# Altium footprint library KFHB9500-LI.PcbLib: 11 footprints
Each footprint in its own frame and in the unit in brackets; x right, y up, seen from the top. Pads: shape width x height; smd on the part's side, far side on the other; paste and mask are expansions set on the pad; w line width, h text height; cw(c..) or ccw(c..) is an arc to the next point about the centre after c.
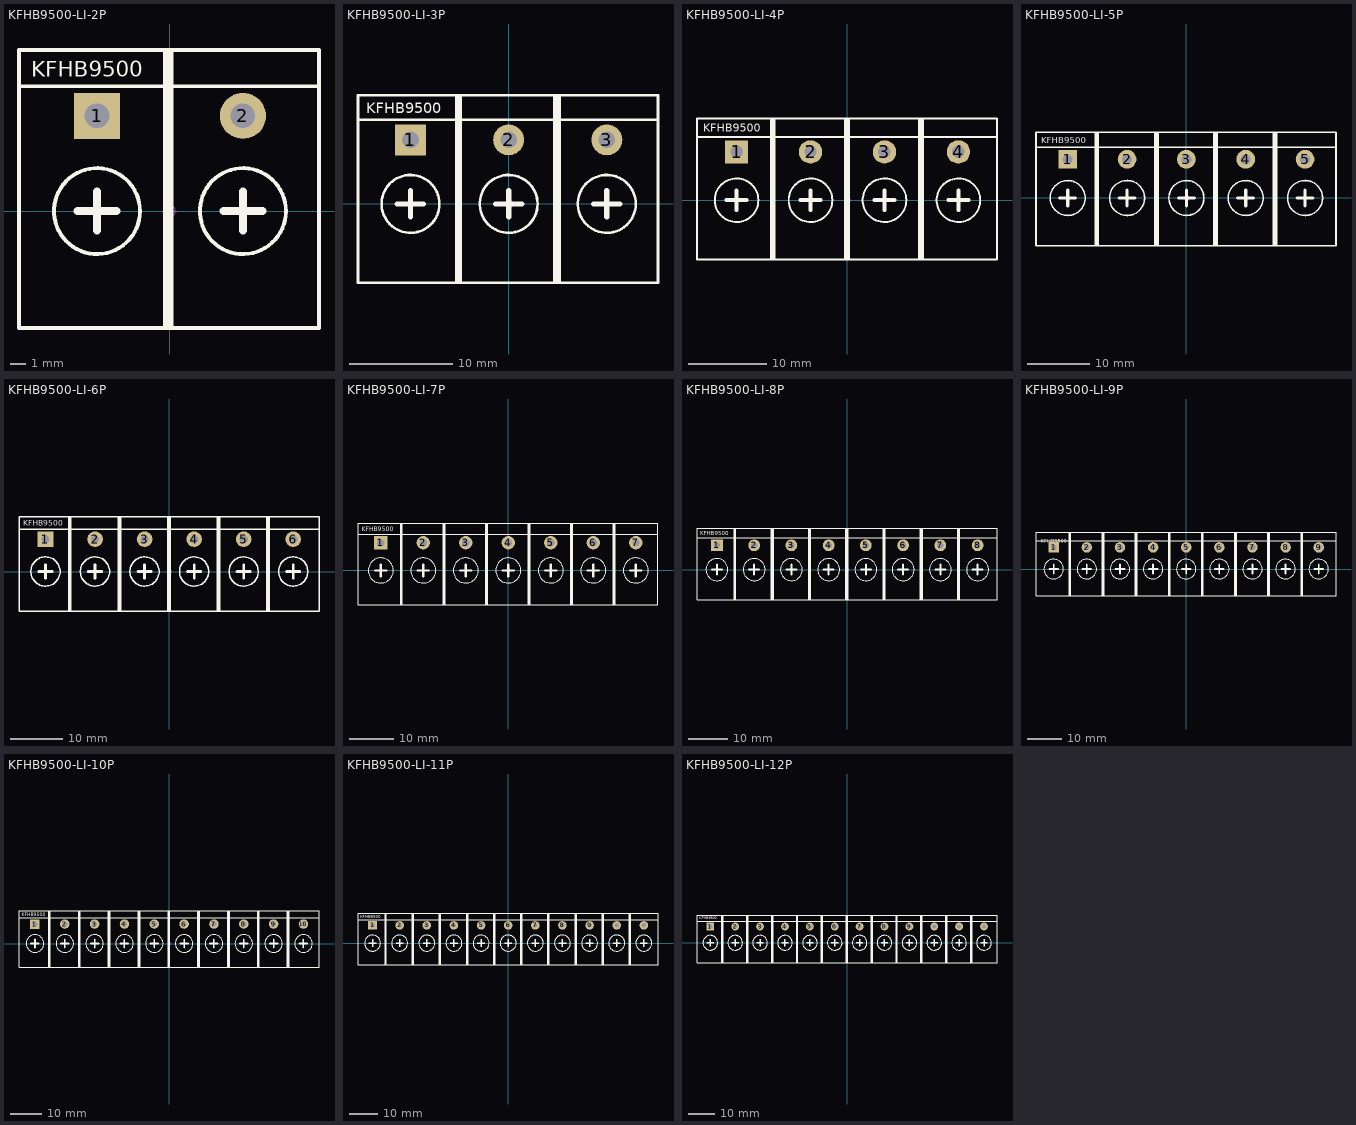
[diagram p0: the footprints below, top view; thin cyan lines are the x and y axes]

## KFHB9500-LI-2P [mm] "长：18mm，宽：19.1mm，高：14"
pads (2):
  rect 3x3 hole 1.6: 1(-4.75,6.2)
  round 3 hole 1.6: 2(4.75,6.2)
Top Overlay:
  circle w0.254: c-4.75,0 r2.8
  circle w0.254: c4.75,0 r2.8
  lines w0.254: -9.83,8.128 0.076,8.128 ; -0.33,8.128 9.576,8.128 ; -0.076,-7.62 -0.076,10.5 ; -9.83,-7.62 -9.83,10.5 0.103,10.5 0.103,-7.62 -9.83,-7.62 ; -0.33,-7.62 -0.33,10.5 9.703,10.5 9.703,-7.62 -0.33,-7.62
  lines w0.508: -6.02,0 -3.48,0 ; -4.75,-1.27 -4.75,1.27 ; 3.48,0 6.02,0 ; 4.75,-1.27 4.75,1.27
  text "KFHB9500" at -9.017,8.763 h1.02
Mechanical 15:
  circle w0.05: c0,0 r0.35
  lines w0.05: -0.5,0 0.5,0 ; 0,-0.5 0,0.5
3D body "KFHB9500.STEP": height 14.05, standoff -3.25, extent -9.95,-7.5 0.05,10.5
3D body "KFHB9500.STEP": height 14.05, standoff -3.25, extent -0.45,-7.5 9.55,10.5

## KFHB9500-LI-3P [mm] "长：18mm，宽：28.6mm，高：14"
pads (3):
  rect 3x3 hole 1.6: 1(-9.5,6.2)
  round 3 hole 1.6: 2(0,6.2) 3(9.5,6.2)
Top Overlay:
  circle w0.254: c-9.5,0 r2.8
  circle w0.254: c0,0 r2.8
  circle w0.254: c9.5,0 r2.8
  lines w0.254: -14.58,8.128 -4.674,8.128 ; -5.08,8.128 4.826,8.128 ; -4.826,-7.62 -4.826,10.5 ; 4.42,8.128 14.326,8.128 ; 4.674,-7.62 4.674,10.5 ; 4.853,-7.62 4.853,10.5 ; -14.58,-7.62 -14.58,10.5 -4.647,10.5 -4.647,-7.62 -14.58,-7.62 ; -5.08,-7.62 -5.08,10.5 4.953,10.5 4.953,-7.62 -5.08,-7.62 ; 4.42,-7.62 14.453,-7.62 14.453,10.5 4.42,10.5 4.42,-7.62
  lines w0.508: -10.77,0 -8.23,0 ; -9.5,-1.27 -9.5,1.27 ; -1.27,0 1.27,0 ; 0,-1.27 0,1.27 ; 8.23,0 10.77,0 ; 9.5,-1.27 9.5,1.27
  text "KFHB9500" at -13.767,8.763 h1.02
Mechanical 15:
  circle w0.05: c0.076,0 r0.35
  lines w0.05: -0.424,0 0.576,0 ; 0.076,-0.5 0.076,0.5
3D body "KFHB9500.STEP": height 14.05, standoff -3.25, extent 4.3,-7.5 14.3,10.5
3D body "KFHB9500.STEP": height 14.05, standoff -3.25, extent -5.2,-7.5 4.8,10.5
3D body "KFHB9500.STEP": height 14.05, standoff -3.25, extent -14.7,-7.5 -4.7,10.5

## KFHB9500-LI-4P [mm] "长：18mm，宽：38.1mm，高：14"
pads (4):
  rect 3x3 hole 1.6: 1(-14.25,6.2)
  round 3 hole 1.6: 2(-4.75,6.2) 3(4.75,6.2) 4(14.25,6.2)
Top Overlay:
  circle w0.254: c4.75,0 r2.8
  circle w0.254: c-4.75,0 r2.8
  circle w0.254: c-14.25,0 r2.8
  circle w0.254: c14.25,0 r2.8
  lines w0.254: -19.33,8.128 -9.424,8.128 ; -9.83,8.128 0.076,8.128 ; -9.576,-7.62 -9.576,10.5 ; -0.33,8.128 9.576,8.128 ; -0.076,-7.62 -0.076,10.5 ; 0.103,-7.62 0.103,10.5 ; 9.17,8.128 19.076,8.128 ; 9.424,-7.62 9.424,10.5 ; 9.603,-7.62 9.603,10.5 ; 9.703,-7.62 -0.33,-7.62 -0.33,10.5 9.703,10.5 ; 9.703,-7.62 9.703,10.5 ; 9.703,-7.62 9.703,10.5 ; -19.33,-7.62 -9.397,-7.62 -9.397,10.5 -19.33,10.5 -19.33,-7.62 ; -9.83,-7.62 0.203,-7.62 0.203,10.5 -9.83,10.5 -9.83,-7.62 ; 9.17,-7.62 19.203,-7.62 19.203,10.5 9.17,10.5 9.17,-7.62
  lines w0.508: -15.52,0 -12.98,0 ; -14.25,-1.27 -14.25,1.27 ; -6.02,0 -3.48,0 ; -4.75,-1.27 -4.75,1.27 ; 3.48,0 6.02,0 ; 4.75,-1.27 4.75,1.27 ; 12.98,0 15.52,0 ; 14.25,-1.27 14.25,1.27
  text "KFHB9500" at -18.517,8.763 h1.02
Mechanical 15:
  circle w0.05: c0,0 r0.35
  lines w0.05: -0.5,0 0.5,0 ; 0,-0.5 0,0.5
3D body "KFHB9500.STEP": height 14.05, standoff -3.25, extent 9.05,-7.5 19.05,10.5
3D body "KFHB9500.STEP": height 14.05, standoff -3.25, extent -0.45,-7.5 9.55,10.5
3D body "KFHB9500.STEP": height 14.05, standoff -3.25, extent -9.95,-7.5 0.05,10.5
3D body "KFHB9500.STEP": height 14.05, standoff -3.25, extent -19.45,-7.5 -9.45,10.5

## KFHB9500-LI-5P [mm] "长：18mm，宽：47.6mm，高：14"
pads (5):
  rect 3x3 hole 1.6: 1(-19,6.2)
  round 3 hole 1.6: 2(-9.5,6.2) 3(0,6.2) 4(9.5,6.2) 5(19,6.2)
Top Overlay:
  circle w0.254: c19,0 r2.8
  circle w0.254: c9.5,0 r2.8
  circle w0.254: c-19,0 r2.8
  circle w0.254: c-9.5,0 r2.8
  circle w0.254: c0,0 r2.8
  lines w0.254: -24.08,8.128 -14.174,8.128 ; -14.58,8.128 -4.674,8.128 ; -14.326,-7.62 -14.326,10.5 ; -5.08,8.128 4.826,8.128 ; -4.826,-7.62 -4.826,10.5 ; -4.647,-7.62 -4.647,10.5 ; 4.42,8.128 14.326,8.128 ; 4.674,-7.62 4.674,10.5 ; 4.853,-7.62 4.853,10.5 ; 13.92,8.128 23.826,8.128 ; 14.174,-7.62 14.174,10.5 ; 14.353,-7.62 14.353,10.5 ; 4.953,-7.62 4.953,10.5 ; 4.953,-7.62 4.953,10.5 ; 4.953,-7.62 -5.08,-7.62 -5.08,10.5 4.953,10.5 ; 14.453,-7.62 14.453,10.5 ; 14.453,-7.62 14.453,10.5 ; 14.453,-7.62 4.42,-7.62 4.42,10.5 14.453,10.5 ; 14.453,-7.62 14.453,10.5 ; -24.08,-7.62 -24.08,10.5 -14.147,10.5 -14.147,-7.62 -24.08,-7.62 ; -14.58,-7.62 -14.58,10.5 -4.547,10.5 -4.547,-7.62 -14.58,-7.62 ; 13.92,-7.62 23.953,-7.62 23.953,10.5 13.92,10.5 13.92,-7.62
  lines w0.508: -20.27,0 -17.73,0 ; -19,-1.27 -19,1.27 ; -10.77,0 -8.23,0 ; -9.5,-1.27 -9.5,1.27 ; -1.27,0 1.27,0 ; 0,-1.27 0,1.27 ; 8.23,0 10.77,0 ; 9.5,-1.27 9.5,1.27 ; 17.73,0 20.27,0 ; 19,-1.27 19,1.27
  text "KFHB9500" at -23.267,8.763 h1.02
Mechanical 15:
  circle w0.05: c0.076,0 r0.35
  lines w0.05: -0.424,0 0.576,0 ; 0.076,-0.5 0.076,0.5
3D body "KFHB9500.STEP": height 14.05, standoff -3.25, extent -24.2,-7.5 -14.2,10.5
3D body "KFHB9500.STEP": height 14.05, standoff -3.25, extent -14.7,-7.5 -4.7,10.5
3D body "KFHB9500.STEP": height 14.05, standoff -3.25, extent -5.2,-7.5 4.8,10.5
3D body "KFHB9500.STEP": height 14.05, standoff -3.25, extent 4.3,-7.5 14.3,10.5
3D body "KFHB9500.STEP": height 14.05, standoff -3.25, extent 13.8,-7.5 23.8,10.5

## KFHB9500-LI-6P [mm] "长：18mm，宽：57.1mm，高：14"
pads (6):
  rect 3x3 hole 1.6: 1(-23.75,6.2)
  round 3 hole 1.6: 2(-14.25,6.2) 3(-4.75,6.2) 4(4.75,6.2) 5(14.25,6.2) 6(23.75,6.2)
Top Overlay:
  circle w0.254: c14.25,0 r2.8
  circle w0.254: c4.75,0 r2.8
  circle w0.254: c-23.75,0 r2.8
  circle w0.254: c-14.25,0 r2.8
  circle w0.254: c-4.75,0 r2.8
  circle w0.254: c23.75,0 r2.8
  lines w0.254: -28.83,8.128 -18.924,8.128 ; -19.33,8.128 -9.424,8.128 ; -19.076,-7.62 -19.076,10.5 ; -9.83,8.128 0.076,8.128 ; -9.576,-7.62 -9.576,10.5 ; -9.397,-7.62 -9.397,10.5 ; -0.33,8.128 9.576,8.128 ; -0.076,-7.62 -0.076,10.5 ; 0.103,-7.62 0.103,10.5 ; 9.17,8.128 19.076,8.128 ; 9.424,-7.62 9.424,10.5 ; 9.603,-7.62 9.603,10.5 ; 18.67,8.128 28.576,8.128 ; 18.924,-7.62 18.924,10.5 ; 19.103,-7.62 19.103,10.5 ; 0.203,-7.62 0.203,10.5 ; 0.203,-7.62 0.203,10.5 ; 0.203,-7.62 -9.83,-7.62 -9.83,10.5 0.203,10.5 ; 9.703,-7.62 9.703,10.5 ; 9.703,-7.62 9.703,10.5 ; 9.703,-7.62 -0.33,-7.62 -0.33,10.5 9.703,10.5 ; 9.703,-7.62 9.703,10.5 ; 19.203,-7.62 19.203,10.5 ; 19.203,-7.62 9.17,-7.62 9.17,10.5 19.203,10.5 ; 19.203,-7.62 19.203,10.5 ; 19.203,-7.62 19.203,10.5 ; 19.203,-7.62 19.203,10.5 ; -28.83,-7.62 -28.83,10.5 -18.897,10.5 -18.897,-7.62 -28.83,-7.62 ; -19.33,-7.62 -19.33,10.5 -9.297,10.5 -9.297,-7.62 -19.33,-7.62 ; 18.67,-7.62 18.67,10.5 28.703,10.5 28.703,-7.62 18.67,-7.62
  lines w0.508: -25.02,0 -22.48,0 ; -23.75,-1.27 -23.75,1.27 ; -15.52,0 -12.98,0 ; -14.25,-1.27 -14.25,1.27 ; -6.02,0 -3.48,0 ; -4.75,-1.27 -4.75,1.27 ; 3.48,0 6.02,0 ; 4.75,-1.27 4.75,1.27 ; 12.98,0 15.52,0 ; 14.25,-1.27 14.25,1.27 ; 22.48,0 25.02,0 ; 23.75,-1.27 23.75,1.27
  text "KFHB9500" at -28.017,8.763 h1.02
Mechanical 15:
  circle w0.05: c0,0 r0.35
  lines w0.05: -0.5,0 0.5,0 ; 0,-0.5 0,0.5
3D body "KFHB9500.STEP": height 14.05, standoff -3.25, extent 18.55,-7.5 28.55,10.5
3D body "KFHB9500.STEP": height 14.05, standoff -3.25, extent 9.05,-7.5 19.05,10.5
3D body "KFHB9500.STEP": height 14.05, standoff -3.25, extent -0.45,-7.5 9.55,10.5
3D body "KFHB9500.STEP": height 14.05, standoff -3.25, extent -9.95,-7.5 0.05,10.5
3D body "KFHB9500.STEP": height 14.05, standoff -3.25, extent -19.45,-7.5 -9.45,10.5
3D body "KFHB9500.STEP": height 14.05, standoff -3.25, extent -28.95,-7.5 -18.95,10.5

## KFHB9500-LI-7P [mm] "长：18mm，宽：66.6mm，高：14"
pads (7):
  rect 3x3 hole 1.6: 1(-28.5,6.2)
  round 3 hole 1.6: 2(-19,6.2) 3(-9.5,6.2) 4(0,6.2) 5(9.5,6.2) 6(19,6.2) 7(28.5,6.2)
Top Overlay:
  circle w0.254: c28.5,0 r2.8
  circle w0.254: c9.5,0 r2.8
  circle w0.254: c0,0 r2.8
  circle w0.254: c-28.5,0 r2.8
  circle w0.254: c-19,0 r2.8
  circle w0.254: c-9.5,0 r2.8
  circle w0.254: c19,0 r2.8
  lines w0.254: -33.58,8.128 -23.674,8.128 ; -24.08,8.128 -14.174,8.128 ; -23.826,-7.62 -23.826,10.5 ; -14.58,8.128 -4.674,8.128 ; -14.326,-7.62 -14.326,10.5 ; -14.147,-7.62 -14.147,10.5 ; -5.08,8.128 4.826,8.128 ; -4.826,-7.62 -4.826,10.5 ; -4.647,-7.62 -4.647,10.5 ; 4.42,8.128 14.326,8.128 ; 4.674,-7.62 4.674,10.5 ; 4.853,-7.62 4.853,10.5 ; 13.92,8.128 23.826,8.128 ; 14.174,-7.62 14.174,10.5 ; 14.353,-7.62 14.353,10.5 ; 23.42,8.128 33.326,8.128 ; 23.674,-7.62 23.674,10.5 ; 23.853,-7.62 23.853,10.5 ; -4.547,-7.62 -4.547,10.5 ; -4.547,-7.62 -4.547,10.5 ; -4.547,-7.62 -14.58,-7.62 -14.58,10.5 -4.547,10.5 ; 4.953,-7.62 4.953,10.5 ; 4.953,-7.62 4.953,10.5 ; 4.953,-7.62 -5.08,-7.62 -5.08,10.5 4.953,10.5 ; 4.953,-7.62 4.953,10.5 ; 14.453,-7.62 14.453,10.5 ; 14.453,-7.62 4.42,-7.62 4.42,10.5 14.453,10.5 ; 14.453,-7.62 14.453,10.5 ; 14.453,-7.62 14.453,10.5 ; 14.453,-7.62 14.453,10.5 ; 23.953,-7.62 23.953,10.5 ; 23.953,-7.62 23.953,10.5 ; 23.953,-7.62 23.953,10.5 ; 23.953,-7.62 23.953,10.5 ; 23.953,-7.62 13.92,-7.62 13.92,10.5 23.953,10.5 ; 23.953,-7.62 23.953,10.5 ; -33.58,-7.62 -33.58,10.5 -23.647,10.5 -23.647,-7.62 -33.58,-7.62 ; -24.08,-7.62 -24.08,10.5 -14.047,10.5 -14.047,-7.62 -24.08,-7.62 ; 23.42,-7.62 33.453,-7.62 33.453,10.5 23.42,10.5 23.42,-7.62
  lines w0.508: -29.77,0 -27.23,0 ; -28.5,-1.27 -28.5,1.27 ; -20.27,0 -17.73,0 ; -19,-1.27 -19,1.27 ; -10.77,0 -8.23,0 ; -9.5,-1.27 -9.5,1.27 ; -1.27,0 1.27,0 ; 0,-1.27 0,1.27 ; 8.23,0 10.77,0 ; 9.5,-1.27 9.5,1.27 ; 17.73,0 20.27,0 ; 19,-1.27 19,1.27 ; 27.23,0 29.77,0 ; 28.5,-1.27 28.5,1.27
  text "KFHB9500" at -32.767,8.763 h1.02
Mechanical 15:
  circle w0.05: c0,0 r0.35
  lines w0.05: -0.5,0 0.5,0 ; 0,-0.5 0,0.5
3D body "KFHB9500.STEP": height 14.05, standoff -3.25, extent -33.7,-7.5 -23.7,10.5
3D body "KFHB9500.STEP": height 14.05, standoff -3.25, extent -24.2,-7.5 -14.2,10.5
3D body "KFHB9500.STEP": height 14.05, standoff -3.25, extent -14.7,-7.5 -4.7,10.5
3D body "KFHB9500.STEP": height 14.05, standoff -3.25, extent -5.2,-7.5 4.8,10.5
3D body "KFHB9500.STEP": height 14.05, standoff -3.25, extent 4.3,-7.5 14.3,10.5
3D body "KFHB9500.STEP": height 14.05, standoff -3.25, extent 13.8,-7.5 23.8,10.5
3D body "KFHB9500.STEP": height 14.05, standoff -3.25, extent 23.3,-7.5 33.3,10.5

## KFHB9500-LI-8P [mm] "长：18mm，宽：76.1mm，高：14"
pads (8):
  rect 3x3 hole 1.6: 1(-33.25,6.2)
  round 3 hole 1.6: 2(-23.75,6.2) 3(-14.25,6.2) 4(-4.75,6.2) 5(4.75,6.2) 6(14.25,6.2) 7(23.75,6.2) 8(33.25,6.2)
Top Overlay:
  circle w0.254: c23.75,0 r2.8
  circle w0.254: c4.75,0 r2.8
  circle w0.254: c-4.75,0 r2.8
  circle w0.254: c-33.25,0 r2.8
  circle w0.254: c-23.75,0 r2.8
  circle w0.254: c-14.25,0 r2.8
  circle w0.254: c14.25,0 r2.8
  circle w0.254: c33.25,0 r2.8
  lines w0.254: -38.33,8.128 -28.424,8.128 ; -28.83,8.128 -18.924,8.128 ; -28.576,-7.62 -28.576,10.5 ; -19.33,8.128 -9.424,8.128 ; -19.076,-7.62 -19.076,10.5 ; -18.897,-7.62 -18.897,10.5 ; -9.83,8.128 0.076,8.128 ; -9.576,-7.62 -9.576,10.5 ; -9.397,-7.62 -9.397,10.5 ; -0.33,8.128 9.576,8.128 ; -0.076,-7.62 -0.076,10.5 ; 0.103,-7.62 0.103,10.5 ; 9.17,8.128 19.076,8.128 ; 9.424,-7.62 9.424,10.5 ; 9.603,-7.62 9.603,10.5 ; 18.67,8.128 28.576,8.128 ; 18.924,-7.62 18.924,10.5 ; 19.103,-7.62 19.103,10.5 ; 28.17,8.128 38.076,8.128 ; 28.424,-7.62 28.424,10.5 ; 28.603,-7.62 28.603,10.5 ; -9.297,-7.62 -9.297,10.5 ; -9.297,-7.62 -9.297,10.5 ; -9.297,-7.62 -19.33,-7.62 -19.33,10.5 -9.297,10.5 ; 0.203,-7.62 0.203,10.5 ; 0.203,-7.62 0.203,10.5 ; 0.203,-7.62 -9.83,-7.62 -9.83,10.5 0.203,10.5 ; 0.203,-7.62 0.203,10.5 ; 9.703,-7.62 9.703,10.5 ; 9.703,-7.62 -0.33,-7.62 -0.33,10.5 9.703,10.5 ; 9.703,-7.62 9.703,10.5 ; 9.703,-7.62 9.703,10.5 ; 9.703,-7.62 9.703,10.5 ; 19.203,-7.62 19.203,10.5 ; 19.203,-7.62 19.203,10.5 ; 19.203,-7.62 19.203,10.5 ; 19.203,-7.62 19.203,10.5 ; 19.203,-7.62 9.17,-7.62 9.17,10.5 19.203,10.5 ; 19.203,-7.62 19.203,10.5 ; 28.703,-7.62 28.703,10.5 ; 28.703,-7.62 18.67,-7.62 18.67,10.5 28.703,10.5 ; 28.703,-7.62 28.703,10.5 ; 28.703,-7.62 28.703,10.5 ; 28.703,-7.62 28.703,10.5 ; 28.703,-7.62 28.703,10.5 ; 28.703,-7.62 28.703,10.5 ; -38.33,-7.62 -38.33,10.5 -28.397,10.5 -28.397,-7.62 -38.33,-7.62 ; -28.83,-7.62 -28.83,10.5 -18.797,10.5 -18.797,-7.62 -28.83,-7.62 ; 28.17,-7.62 28.17,10.5 38.203,10.5 38.203,-7.62 28.17,-7.62
  lines w0.508: -34.52,0 -31.98,0 ; -33.25,-1.27 -33.25,1.27 ; -25.02,0 -22.48,0 ; -23.75,-1.27 -23.75,1.27 ; -15.52,0 -12.98,0 ; -14.25,-1.27 -14.25,1.27 ; -6.02,0 -3.48,0 ; -4.75,-1.27 -4.75,1.27 ; 3.48,0 6.02,0 ; 4.75,-1.27 4.75,1.27 ; 12.98,0 15.52,0 ; 14.25,-1.27 14.25,1.27 ; 22.48,0 25.02,0 ; 23.75,-1.27 23.75,1.27 ; 31.98,0 34.52,0 ; 33.25,-1.27 33.25,1.27
  text "KFHB9500" at -37.517,8.763 h1.02
Mechanical 15:
  circle w0.05: c0,0 r0.35
  lines w0.05: -0.5,0 0.5,0 ; 0,-0.5 0,0.5
3D body "KFHB9500.STEP": height 14.05, standoff -3.25, extent 28.05,-7.5 38.05,10.5
3D body "KFHB9500.STEP": height 14.05, standoff -3.25, extent 18.55,-7.5 28.55,10.5
3D body "KFHB9500.STEP": height 14.05, standoff -3.25, extent 9.05,-7.5 19.05,10.5
3D body "KFHB9500.STEP": height 14.05, standoff -3.25, extent -0.45,-7.5 9.55,10.5
3D body "KFHB9500.STEP": height 14.05, standoff -3.25, extent -9.95,-7.5 0.05,10.5
3D body "KFHB9500.STEP": height 14.05, standoff -3.25, extent -19.45,-7.5 -9.45,10.5
3D body "KFHB9500.STEP": height 14.05, standoff -3.25, extent -28.95,-7.5 -18.95,10.5
3D body "KFHB9500.STEP": height 14.05, standoff -3.25, extent -38.45,-7.5 -28.45,10.5

## KFHB9500-LI-9P [mm] "长：18mm，宽：85.6mm，高：14"
pads (9):
  rect 3x3 hole 1.6: 1(-38,6.2)
  round 3 hole 1.6: 2(-28.5,6.2) 3(-19,6.2) 4(-9.5,6.2) 5(0,6.2) 6(9.5,6.2) 7(19,6.2) 8(28.5,6.2) 9(38,6.2)
Top Overlay:
  circle w0.254: c28.5,0 r2.8
  circle w0.254: c9.5,0 r2.8
  circle w0.254: c-19,0 r2.8
  circle w0.254: c-28.5,0 r2.8
  circle w0.254: c-38,0 r2.8
  circle w0.254: c-9.5,0 r2.8
  circle w0.254: c0,0 r2.8
  circle w0.254: c19,0 r2.8
  circle w0.254: c38,0 r2.8
  lines w0.254: -43.08,8.128 -33.174,8.128 ; -33.58,8.128 -23.674,8.128 ; -33.326,-7.62 -33.326,10.5 ; -24.08,8.128 -14.174,8.128 ; -23.826,-7.62 -23.826,10.5 ; -23.647,-7.62 -23.647,10.5 ; -14.58,8.128 -4.674,8.128 ; -14.326,-7.62 -14.326,10.5 ; -14.147,-7.62 -14.147,10.5 ; -5.08,8.128 4.826,8.128 ; -4.826,-7.62 -4.826,10.5 ; -4.647,-7.62 -4.647,10.5 ; 4.42,8.128 14.326,8.128 ; 4.674,-7.62 4.674,10.5 ; 4.853,-7.62 4.853,10.5 ; 13.92,8.128 23.826,8.128 ; 14.174,-7.62 14.174,10.5 ; 14.353,-7.62 14.353,10.5 ; 23.42,8.128 33.326,8.128 ; 23.674,-7.62 23.674,10.5 ; 23.853,-7.62 23.853,10.5 ; 32.92,8.128 42.826,8.128 ; 33.174,-7.62 33.174,10.5 ; 33.353,-7.62 33.353,10.5 ; -14.047,-7.62 -24.08,-7.62 -24.08,10.5 -14.047,10.5 ; -14.047,-7.62 -14.047,10.5 ; -14.047,-7.62 -14.047,10.5 ; -4.547,-7.62 -4.547,10.5 ; -4.547,-7.62 -14.58,-7.62 -14.58,10.5 -4.547,10.5 ; -4.547,-7.62 -4.547,10.5 ; -4.547,-7.62 -4.547,10.5 ; 4.953,-7.62 4.953,10.5 ; 4.953,-7.62 4.953,10.5 ; 4.953,-7.62 4.953,10.5 ; 4.953,-7.62 -5.08,-7.62 -5.08,10.5 4.953,10.5 ; 4.953,-7.62 4.953,10.5 ; 14.453,-7.62 14.453,10.5 ; 14.453,-7.62 4.42,-7.62 4.42,10.5 14.453,10.5 ; 14.453,-7.62 14.453,10.5 ; 14.453,-7.62 14.453,10.5 ; 14.453,-7.62 14.453,10.5 ; 14.453,-7.62 14.453,10.5 ; 23.953,-7.62 23.953,10.5 ; 23.953,-7.62 23.953,10.5 ; 23.953,-7.62 23.953,10.5 ; 23.953,-7.62 23.953,10.5 ; 23.953,-7.62 23.953,10.5 ; 23.953,-7.62 13.92,-7.62 13.92,10.5 23.953,10.5 ; 23.953,-7.62 23.953,10.5 ; 33.453,-7.62 33.453,10.5 ; 33.453,-7.62 23.42,-7.62 23.42,10.5 33.453,10.5 ; 33.453,-7.62 33.453,10.5 ; 33.453,-7.62 33.453,10.5 ; 33.453,-7.62 33.453,10.5 ; 33.453,-7.62 33.453,10.5 ; 33.453,-7.62 33.453,10.5 ; 33.453,-7.62 33.453,10.5 ; -43.08,-7.62 -33.147,-7.62 -33.147,10.5 -43.08,10.5 -43.08,-7.62 ; -33.58,-7.62 -23.547,-7.62 -23.547,10.5 -33.58,10.5 -33.58,-7.62 ; 32.92,-7.62 32.92,10.5 42.953,10.5 42.953,-7.62 32.92,-7.62
  lines w0.508: -39.27,0 -36.73,0 ; -38,-1.27 -38,1.27 ; -29.77,0 -27.23,0 ; -28.5,-1.27 -28.5,1.27 ; -20.27,0 -17.73,0 ; -19,-1.27 -19,1.27 ; -10.77,0 -8.23,0 ; -9.5,-1.27 -9.5,1.27 ; -1.27,0 1.27,0 ; 0,-1.27 0,1.27 ; 8.23,0 10.77,0 ; 9.5,-1.27 9.5,1.27 ; 17.73,0 20.27,0 ; 19,-1.27 19,1.27 ; 27.23,0 29.77,0 ; 28.5,-1.27 28.5,1.27 ; 36.73,0 39.27,0 ; 38,-1.27 38,1.27
  text "KFHB9500" at -41.767,7.563 h1.02
Mechanical 15:
  circle w0.05: c0,0 r0.35
  lines w0.05: -0.5,0 0.5,0 ; 0,-0.5 0,0.5
3D body "KFHB9500.STEP": height 14.05, standoff -3.25, extent -43.2,-7.5 -33.2,10.5
3D body "KFHB9500.STEP": height 14.05, standoff -3.25, extent -33.7,-7.5 -23.7,10.5
3D body "KFHB9500.STEP": height 14.05, standoff -3.25, extent -24.2,-7.5 -14.2,10.5
3D body "KFHB9500.STEP": height 14.05, standoff -3.25, extent -14.7,-7.5 -4.7,10.5
3D body "KFHB9500.STEP": height 14.05, standoff -3.25, extent -5.2,-7.5 4.8,10.5
3D body "KFHB9500.STEP": height 14.05, standoff -3.25, extent 4.3,-7.5 14.3,10.5
3D body "KFHB9500.STEP": height 14.05, standoff -3.25, extent 13.8,-7.5 23.8,10.5
3D body "KFHB9500.STEP": height 14.05, standoff -3.25, extent 23.3,-7.5 33.3,10.5
3D body "KFHB9500.STEP": height 14.05, standoff -3.25, extent 32.8,-7.5 42.8,10.5

## KFHB9500-LI-10P [mm] "长：18mm，宽：95.1mm，高：14"
pads (10):
  rect 3x3 hole 1.6: 1(-42.75,6.2)
  round 3 hole 1.6: 2(-33.25,6.2) 3(-23.75,6.2) 4(-14.25,6.2) 5(-4.75,6.2) 6(4.75,6.2) 7(14.25,6.2) 8(23.75,6.2) 9(33.25,6.2) 10(42.75,6.2)
Top Overlay:
  circle w0.254: c23.75,0 r2.8
  circle w0.254: c4.75,0 r2.8
  circle w0.254: c-23.75,0 r2.8
  circle w0.254: c-33.25,0 r2.8
  circle w0.254: c-42.75,0 r2.8
  circle w0.254: c-14.25,0 r2.8
  circle w0.254: c-4.75,0 r2.8
  circle w0.254: c14.25,0 r2.8
  circle w0.254: c33.25,0 r2.8
  circle w0.254: c42.75,0 r2.8
  lines w0.254: -47.83,8.128 -37.924,8.128 ; -38.33,8.128 -28.424,8.128 ; -38.076,-7.62 -38.076,10.5 ; -28.83,8.128 -18.924,8.128 ; -28.576,-7.62 -28.576,10.5 ; -28.397,-7.62 -28.397,10.5 ; -19.33,8.128 -9.424,8.128 ; -19.076,-7.62 -19.076,10.5 ; -18.897,-7.62 -18.897,10.5 ; -9.83,8.128 0.076,8.128 ; -9.576,-7.62 -9.576,10.5 ; -9.397,-7.62 -9.397,10.5 ; -0.33,8.128 9.576,8.128 ; -0.076,-7.62 -0.076,10.5 ; 0.103,-7.62 0.103,10.5 ; 9.17,8.128 19.076,8.128 ; 9.424,-7.62 9.424,10.5 ; 9.603,-7.62 9.603,10.5 ; 18.67,8.128 28.576,8.128 ; 18.924,-7.62 18.924,10.5 ; 19.103,-7.62 19.103,10.5 ; 28.17,8.128 38.076,8.128 ; 28.424,-7.62 28.424,10.5 ; 28.603,-7.62 28.603,10.5 ; 37.67,8.128 47.576,8.128 ; 37.924,-7.62 37.924,10.5 ; 38.103,-7.62 38.103,10.5 ; -18.797,-7.62 -28.83,-7.62 -28.83,10.5 -18.797,10.5 ; -18.797,-7.62 -18.797,10.5 ; -18.797,-7.62 -18.797,10.5 ; -9.297,-7.62 -9.297,10.5 ; -9.297,-7.62 -19.33,-7.62 -19.33,10.5 -9.297,10.5 ; -9.297,-7.62 -9.297,10.5 ; -9.297,-7.62 -9.297,10.5 ; 0.203,-7.62 0.203,10.5 ; 0.203,-7.62 0.203,10.5 ; 0.203,-7.62 0.203,10.5 ; 0.203,-7.62 -9.83,-7.62 -9.83,10.5 0.203,10.5 ; 0.203,-7.62 0.203,10.5 ; 9.703,-7.62 9.703,10.5 ; 9.703,-7.62 -0.33,-7.62 -0.33,10.5 9.703,10.5 ; 9.703,-7.62 9.703,10.5 ; 9.703,-7.62 9.703,10.5 ; 9.703,-7.62 9.703,10.5 ; 9.703,-7.62 9.703,10.5 ; 19.203,-7.62 19.203,10.5 ; 19.203,-7.62 19.203,10.5 ; 19.203,-7.62 19.203,10.5 ; 19.203,-7.62 19.203,10.5 ; 19.203,-7.62 19.203,10.5 ; 19.203,-7.62 9.17,-7.62 9.17,10.5 19.203,10.5 ; 19.203,-7.62 19.203,10.5 ; 28.703,-7.62 28.703,10.5 ; 28.703,-7.62 18.67,-7.62 18.67,10.5 28.703,10.5 ; 28.703,-7.62 28.703,10.5 ; 28.703,-7.62 28.703,10.5 ; 28.703,-7.62 28.703,10.5 ; 28.703,-7.62 28.703,10.5 ; 28.703,-7.62 28.703,10.5 ; 28.703,-7.62 28.703,10.5 ; 38.203,-7.62 28.17,-7.62 28.17,10.5 38.203,10.5 ; 38.203,-7.62 38.203,10.5 ; 38.203,-7.62 38.203,10.5 ; 38.203,-7.62 38.203,10.5 ; 38.203,-7.62 38.203,10.5 ; 38.203,-7.62 38.203,10.5 ; 38.203,-7.62 38.203,10.5 ; 38.203,-7.62 38.203,10.5 ; 38.203,-7.62 38.203,10.5 ; -47.83,-7.62 -37.897,-7.62 -37.897,10.5 -47.83,10.5 -47.83,-7.62 ; -38.33,-7.62 -28.297,-7.62 -28.297,10.5 -38.33,10.5 -38.33,-7.62 ; 37.67,-7.62 47.703,-7.62 47.703,10.5 37.67,10.5 37.67,-7.62
  lines w0.508: -44.02,0 -41.48,0 ; -42.75,-1.27 -42.75,1.27 ; -34.52,0 -31.98,0 ; -33.25,-1.27 -33.25,1.27 ; -25.02,0 -22.48,0 ; -23.75,-1.27 -23.75,1.27 ; -15.52,0 -12.98,0 ; -14.25,-1.27 -14.25,1.27 ; -6.02,0 -3.48,0 ; -4.75,-1.27 -4.75,1.27 ; 3.48,0 6.02,0 ; 4.75,-1.27 4.75,1.27 ; 12.98,0 15.52,0 ; 14.25,-1.27 14.25,1.27 ; 22.48,0 25.02,0 ; 23.75,-1.27 23.75,1.27 ; 31.98,0 34.52,0 ; 33.25,-1.27 33.25,1.27 ; 41.48,0 44.02,0 ; 42.75,-1.27 42.75,1.27
  text "KFHB9500" at -47.017,8.763 h1.02
Mechanical 15:
  circle w0.05: c0,0 r0.35
  lines w0.05: -0.5,0 0.5,0 ; 0,-0.5 0,0.5
3D body "KFHB9500.STEP": height 14.05, standoff -3.25, extent -47.95,-7.5 -37.95,10.5
3D body "KFHB9500.STEP": height 14.05, standoff -3.25, extent -38.45,-7.5 -28.45,10.5
3D body "KFHB9500.STEP": height 14.05, standoff -3.25, extent -28.95,-7.5 -18.95,10.5
3D body "KFHB9500.STEP": height 14.05, standoff -3.25, extent -19.45,-7.5 -9.45,10.5
3D body "KFHB9500.STEP": height 14.05, standoff -3.25, extent -9.95,-7.5 0.05,10.5
3D body "KFHB9500.STEP": height 14.05, standoff -3.25, extent -0.45,-7.5 9.55,10.5
3D body "KFHB9500.STEP": height 14.05, standoff -3.25, extent 9.05,-7.5 19.05,10.5
3D body "KFHB9500.STEP": height 14.05, standoff -3.25, extent 18.55,-7.5 28.55,10.5
3D body "KFHB9500.STEP": height 14.05, standoff -3.25, extent 28.05,-7.5 38.05,10.5
3D body "KFHB9500.STEP": height 14.05, standoff -3.25, extent 37.55,-7.5 47.55,10.5

## KFHB9500-LI-11P [mm] "长：18mm，宽：104.6mm，高：14"
pads (11):
  rect 3x3 hole 1.6: 1(-47.5,6.2)
  round 3 hole 1.6: 2(-38,6.2) 3(-28.5,6.2) 4(-19,6.2) 5(-9.5,6.2) 6(0,6.2) 7(9.5,6.2) 8(19,6.2) 9(28.5,6.2) 10(38,6.2) 11(47.5,6.2)
Top Overlay:
  circle w0.254: c47.5,0 r2.8
  circle w0.254: c19,0 r2.8
  circle w0.254: c0,0 r2.8
  circle w0.254: c-28.5,0 r2.8
  circle w0.254: c-38,0 r2.8
  circle w0.254: c-47.5,0 r2.8
  circle w0.254: c-19,0 r2.8
  circle w0.254: c-9.5,0 r2.8
  circle w0.254: c9.5,0 r2.8
  circle w0.254: c28.5,0 r2.8
  circle w0.254: c38,0 r2.8
  lines w0.254: -52.58,8.128 -42.674,8.128 ; -43.08,8.128 -33.174,8.128 ; -42.826,-7.62 -42.826,10.5 ; -33.58,8.128 -23.674,8.128 ; -33.326,-7.62 -33.326,10.5 ; -33.147,-7.62 -33.147,10.5 ; -24.08,8.128 -14.174,8.128 ; -23.826,-7.62 -23.826,10.5 ; -23.647,-7.62 -23.647,10.5 ; -14.58,8.128 -4.674,8.128 ; -14.326,-7.62 -14.326,10.5 ; -14.147,-7.62 -14.147,10.5 ; -5.08,8.128 4.826,8.128 ; -4.826,-7.62 -4.826,10.5 ; -4.647,-7.62 -4.647,10.5 ; 4.42,8.128 14.326,8.128 ; 4.674,-7.62 4.674,10.5 ; 4.853,-7.62 4.853,10.5 ; 13.92,8.128 23.826,8.128 ; 14.174,-7.62 14.174,10.5 ; 14.353,-7.62 14.353,10.5 ; 23.42,8.128 33.326,8.128 ; 23.674,-7.62 23.674,10.5 ; 23.853,-7.62 23.853,10.5 ; 32.92,8.128 42.826,8.128 ; 33.174,-7.62 33.174,10.5 ; 33.353,-7.62 33.353,10.5 ; 42.42,8.128 52.326,8.128 ; 42.674,-7.62 42.674,10.5 ; 42.853,-7.62 42.853,10.5 ; -23.547,-7.62 -33.58,-7.62 -33.58,10.5 -23.547,10.5 ; -23.547,-7.62 -23.547,10.5 ; -23.547,-7.62 -23.547,10.5 ; -14.047,-7.62 -14.047,10.5 ; -14.047,-7.62 -24.08,-7.62 -24.08,10.5 -14.047,10.5 ; -14.047,-7.62 -14.047,10.5 ; -14.047,-7.62 -14.047,10.5 ; -4.547,-7.62 -4.547,10.5 ; -4.547,-7.62 -4.547,10.5 ; -4.547,-7.62 -4.547,10.5 ; -4.547,-7.62 -14.58,-7.62 -14.58,10.5 -4.547,10.5 ; -4.547,-7.62 -4.547,10.5 ; 4.953,-7.62 4.953,10.5 ; 4.953,-7.62 -5.08,-7.62 -5.08,10.5 4.953,10.5 ; 4.953,-7.62 4.953,10.5 ; 4.953,-7.62 4.953,10.5 ; 4.953,-7.62 4.953,10.5 ; 4.953,-7.62 4.953,10.5 ; 14.453,-7.62 14.453,10.5 ; 14.453,-7.62 14.453,10.5 ; 14.453,-7.62 14.453,10.5 ; 14.453,-7.62 14.453,10.5 ; 14.453,-7.62 14.453,10.5 ; 14.453,-7.62 4.42,-7.62 4.42,10.5 14.453,10.5 ; 14.453,-7.62 14.453,10.5 ; 23.953,-7.62 23.953,10.5 ; 23.953,-7.62 13.92,-7.62 13.92,10.5 23.953,10.5 ; 23.953,-7.62 23.953,10.5 ; 23.953,-7.62 23.953,10.5 ; 23.953,-7.62 23.953,10.5 ; 23.953,-7.62 23.953,10.5 ; 23.953,-7.62 23.953,10.5 ; 23.953,-7.62 23.953,10.5 ; 33.453,-7.62 23.42,-7.62 23.42,10.5 33.453,10.5 ; 33.453,-7.62 33.453,10.5 ; 33.453,-7.62 33.453,10.5 ; 33.453,-7.62 33.453,10.5 ; 33.453,-7.62 33.453,10.5 ; 33.453,-7.62 33.453,10.5 ; 33.453,-7.62 33.453,10.5 ; 33.453,-7.62 33.453,10.5 ; 33.453,-7.62 33.453,10.5 ; 42.953,-7.62 42.953,10.5 ; 42.953,-7.62 42.953,10.5 ; 42.953,-7.62 42.953,10.5 ; 42.953,-7.62 42.953,10.5 ; 42.953,-7.62 42.953,10.5 ; 42.953,-7.62 42.953,10.5 ; 42.953,-7.62 42.953,10.5 ; 42.953,-7.62 42.953,10.5 ; 42.953,-7.62 42.953,10.5 ; 42.953,-7.62 32.92,-7.62 32.92,10.5 42.953,10.5 ; -52.58,-7.62 -42.647,-7.62 -42.647,10.5 -52.58,10.5 -52.58,-7.62 ; -43.08,-7.62 -33.047,-7.62 -33.047,10.5 -43.08,10.5 -43.08,-7.62 ; 42.42,-7.62 42.42,10.5 52.453,10.5 52.453,-7.62 42.42,-7.62
  lines w0.508: -48.77,0 -46.23,0 ; -47.5,-1.27 -47.5,1.27 ; -39.27,0 -36.73,0 ; -38,-1.27 -38,1.27 ; -29.77,0 -27.23,0 ; -28.5,-1.27 -28.5,1.27 ; -20.27,0 -17.73,0 ; -19,-1.27 -19,1.27 ; -10.77,0 -8.23,0 ; -9.5,-1.27 -9.5,1.27 ; -1.27,0 1.27,0 ; 0,-1.27 0,1.27 ; 8.23,0 10.77,0 ; 9.5,-1.27 9.5,1.27 ; 17.73,0 20.27,0 ; 19,-1.27 19,1.27 ; 27.23,0 29.77,0 ; 28.5,-1.27 28.5,1.27 ; 36.73,0 39.27,0 ; 38,-1.27 38,1.27 ; 46.23,0 48.77,0 ; 47.5,-1.27 47.5,1.27
  text "KFHB9500" at -51.767,8.763 h1.02
Mechanical 15:
  circle w0.05: c0,0 r0.35
  lines w0.05: -0.5,0 0.5,0 ; 0,-0.5 0,0.5
3D body "KFHB9500.STEP": height 14.05, standoff -3.25, extent 42.3,-7.5 52.3,10.5
3D body "KFHB9500.STEP": height 14.05, standoff -3.25, extent 32.8,-7.5 42.8,10.5
3D body "KFHB9500.STEP": height 14.05, standoff -3.25, extent 23.3,-7.5 33.3,10.5
3D body "KFHB9500.STEP": height 14.05, standoff -3.25, extent 13.8,-7.5 23.8,10.5
3D body "KFHB9500.STEP": height 14.05, standoff -3.25, extent 4.3,-7.5 14.3,10.5
3D body "KFHB9500.STEP": height 14.05, standoff -3.25, extent -5.2,-7.5 4.8,10.5
3D body "KFHB9500.STEP": height 14.05, standoff -3.25, extent -14.7,-7.5 -4.7,10.5
3D body "KFHB9500.STEP": height 14.05, standoff -3.25, extent -24.2,-7.5 -14.2,10.5
3D body "KFHB9500.STEP": height 14.05, standoff -3.25, extent -33.7,-7.5 -23.7,10.5
3D body "KFHB9500.STEP": height 14.05, standoff -3.25, extent -43.2,-7.5 -33.2,10.5
3D body "KFHB9500.STEP": height 14.05, standoff -3.25, extent -52.7,-7.5 -42.7,10.5

## KFHB9500-LI-12P [mm] "长：18mm，宽：114.1mm，高：14"
pads (12):
  rect 3x3 hole 1.6: 1(-52.25,6.2)
  round 3 hole 1.6: 2(-42.75,6.2) 3(-33.25,6.2) 4(-23.75,6.2) 5(-14.25,6.2) 6(-4.75,6.2) 7(4.75,6.2) 8(14.25,6.2) 9(23.75,6.2) 10(33.25,6.2) 11(42.75,6.2) 12(52.25,6.2)
Top Overlay:
  drawing of 162 lines, arcs and shapes, not listed
  text "KFHB9500" at -56.388,8.89 h1.02
Mechanical 15:
  circle w0.05: c0,0 r0.35
  lines w0.05: -0.5,0 0.5,0 ; 0,-0.5 0,0.5
3D body "KFHB9500.STEP": height 14.05, standoff -3.25, extent 18.55,-7.5 28.55,10.5
3D body "KFHB9500.STEP": height 14.05, standoff -3.25, extent 28.05,-7.5 38.05,10.5
3D body "KFHB9500.STEP": height 14.05, standoff -3.25, extent 37.55,-7.5 47.55,10.5
3D body "KFHB9500.STEP": height 14.05, standoff -3.25, extent 47.05,-7.5 57.05,10.5
3D body "KFHB9500.STEP": height 14.05, standoff -3.25, extent -19.45,-7.5 -9.45,10.5
3D body "KFHB9500.STEP": height 14.05, standoff -3.25, extent -9.95,-7.5 0.05,10.5
3D body "KFHB9500.STEP": height 14.05, standoff -3.25, extent -0.45,-7.5 9.55,10.5
3D body "KFHB9500.STEP": height 14.05, standoff -3.25, extent 9.05,-7.5 19.05,10.5
3D body "KFHB9500.STEP": height 14.05, standoff -3.25, extent -28.95,-7.5 -18.95,10.5
3D body "KFHB9500.STEP": height 14.05, standoff -3.25, extent -38.45,-7.5 -28.45,10.5
3D body "KFHB9500.STEP": height 14.05, standoff -3.25, extent -47.95,-7.5 -37.95,10.5
3D body "KFHB9500.STEP": height 14.05, standoff -3.25, extent -57.45,-7.5 -47.45,10.5